# Altium schematic symbol library CO2 Sensor.SchLib: 1 symbol
Pins are listed as number, name and electrical type; pins without a type are passive.

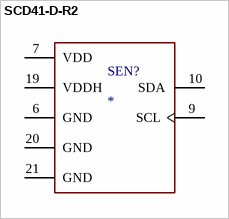
[diagram p0: symbol SCD41-D-R2]

## SCD41-D-R2
designator SEN?
Air Quality Sensor CO2 Sensor 2.5V/3.3V/5V 20-Pin SMD EP; MF: Sensirion AG; MP: SCD41-D-R2; SnapEDA_Link: https://www.snapeda.com/parts/SCD41-D-R2/Sensirion+AG/view-part/?ref=snap; Availability: In Stock; Price: None; Purchase-URL: https://pricing.snapeda.com/search/part/SCD41-D-R2/?ref=eda; Package: None; Check_prices: https://www.snapeda.com/parts/SCD41-D-R2/Sensirion+AG/view-part/?ref=eda; Value: *
footprint XDCR_SCD41-D-R2
pins: 6 GND (power), 7 VDD (power), 9 SCL, 10 SDA, 19 VDDH (power), 20 GND (power), 21 GND (power)